# EAGLE library part ATSAMR21E18A-MUT (library atmel-samr21)
This is the ATMEL SAMR21E QFN-32. ATSAMR21E18A
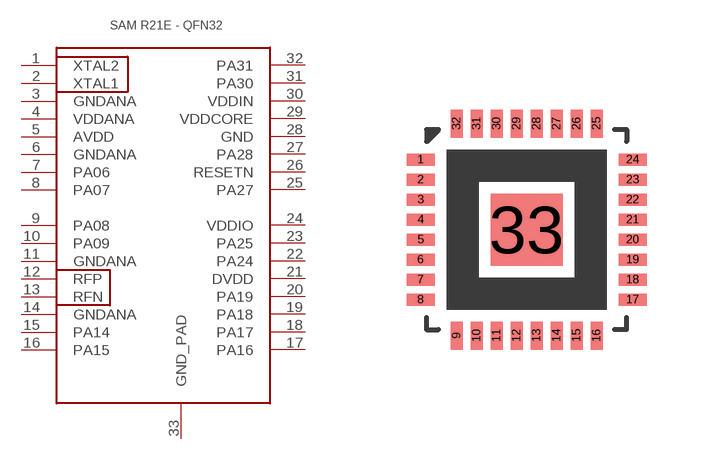
[diagram p0: symbol with the pads of QFN32; footprint QFN32]

Designator prefix -

## ATSAMR21E18A-MUT  [QFN32]
1  XTAL2
2  XTAL1
3  GNDANA
4  VDDANA
5  AVDD
6  GNDANA
7  PA06
8  PA07
9  PA08
10  PA09
11  GNDANA
12  RFP
13  RFN
14  GNDANA
15  PA14
16  PA15
17  PA16
18  PA17
19  PA18
20  PA19
21  DVDD
22  PA24
23  PA25
24  VDDIO
25  PA27
26  RESETN
27  PA28
28  GND
29  VDDCORE
30  VDDIN
31  PA30
32  PA31
33  GND_PAD

## Footprint QFN32 (pad centres in mm)
smd 0.7 x 0.3: 1 -2.65,1.75; 2 -2.65,1.25; 3 -2.65,0.75; 4 -2.65,0.25; 5 -2.65,-0.25; 6 -2.65,-0.75; 7 -2.65,-1.25; 8 -2.65,-1.75; 17 2.65,-1.75; 18 2.65,-1.25; 19 2.65,-0.75; 20 2.65,-0.25; 21 2.65,0.25; 22 2.65,0.75; 23 2.65,1.25; 24 2.65,1.75
smd 0.3 x 0.7: 9 -1.75,-2.65; 10 -1.25,-2.65; 11 -0.75,-2.65; 12 -0.25,-2.65; 13 0.25,-2.65; 14 0.75,-2.65; 15 1.25,-2.65; 16 1.75,-2.65; 25 1.75,2.65; 26 1.25,2.65; 27 0.75,2.65; 28 0.25,2.65; 29 -0.25,2.65; 30 -0.75,2.65; 31 -1.25,2.65; 32 -1.75,2.65
smd 1.8 x 1.8: 33 0,0